# EAGLE library part LM75AD (library DS3231_new)
Digital Temperature Sensor and Thermal Watchdog
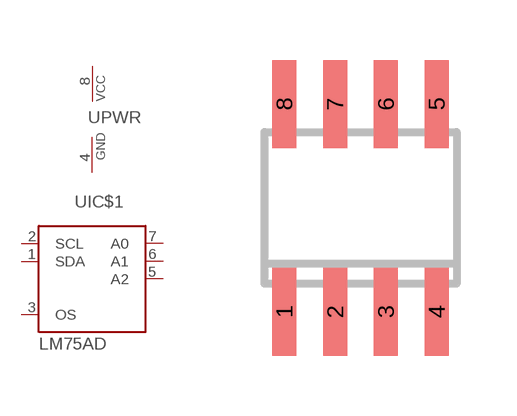
[diagram p12: symbol with the pads of SO08; footprint SO08]

Designator prefix -; gates IC$1=LM75A PWR=PWRN

## LM75AD  [SO08]
1  IC$1:SDA
2  IC$1:SCL  in
3  IC$1:OS  out
4  PWR:GND  pwr
5  IC$1:A2  in
6  IC$1:A1  in
7  IC$1:A0  in
8  PWR:VCC  pwr

## Footprint SO08 (pad centres in mm)
smd 0.6 x 2.2: 1 -1.905,-2.6; 2 -0.635,-2.6; 3 0.635,-2.6; 4 1.905,-2.6; 5 1.905,2.6; 6 0.635,2.6; 7 -0.635,2.6; 8 -1.905,2.6